# Altium schematic symbol library OXI_ONE.SchLib: 92 symbols (part 2 of 3)
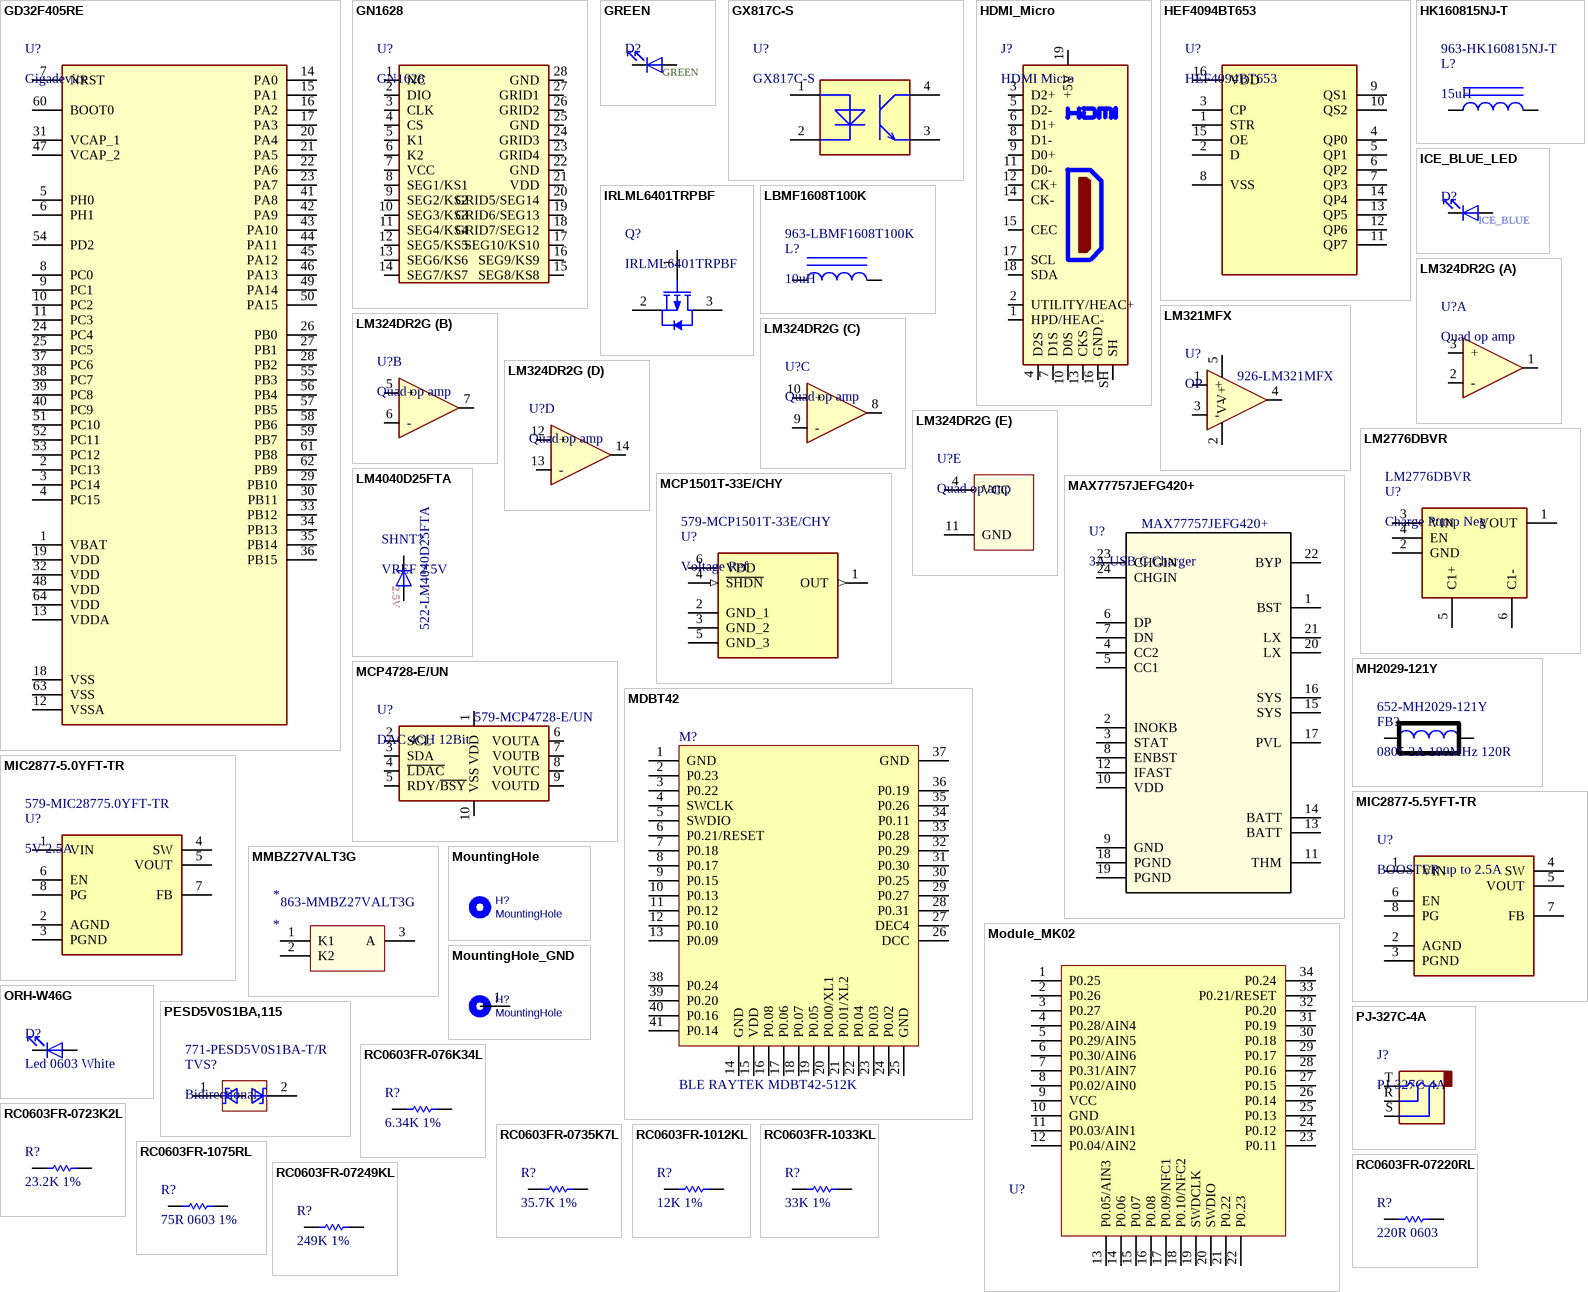
[diagram p3: symbols GD32F405RE to RC0603FR-07249KL]

## LM324DR2G
designator U?, comment Quad op amp
LM Series 0.6 V/us 32 V SMT Single Supply Quad Operational Amplifier - SOIC-14; Manufacturer: ON Semiconductor; Manufacturer Part Number: LM324DR2G; Number of Circuits: 4; Gain Bandwidth Product: 1MHz; Max Supply Voltage: 32V; Slew Rate: 0.6V/µs; Common Mode Rejection Ratio: 65dB; Min Supply Voltage: 3V; Min Dual Supply Voltage: 1.5V; Max Dual Supply Voltage: 16V; Voltage Gain: 100dB; Input Bias Current: 250nA; Input Offset Voltage (Vos): 7mV; Operating Supply Current: 1.4mA; Output Current per Channel: 40mA; Nominal Supply Current: 1.2mA; Amplifier Type: GENERAL PURPOSE; Dual Supply Voltage: 9V; Input Offset Voltage-Max: 3mV; Supplier 1: Mouser; RoHS: Yes; Category: Amplifiers - Op Amps, Buffer, Instrumentation; Stock 1: 102; Pricing 1: 1=0,43000, 10=0,34500, 50=0,34500, 100=0,21300, 1000=0,13200, 10000=0,10600 (USD); Case/Package: SOIC; Number of Pins: 14; Min Operating Temperature: 0°C; Max Operating Temperature: 70°C; Packaging: Tape and Reel; Number of Channels: 4; Package Quantity: 2500; Operating Supply Voltage: 16V; Output Current: 40mA; Number of Elements: 4; Bandwidth: 1MHz; Supply Current: 1.2mA; Technology: BIPOLAR; Number of Amplifiers: 4; Power Supply Rejection Ratio (PSRR): 65dB; Series: -; Slew Rate-Nom: 0.6V/µs; Length: 8.75mm; Width: 4mm; Height: 1.5mm; Radiation Hardening: No; Lead Free: Lead Free; RoHS Compliant: Yes; REACH SVHC: No SVHC; Halogen Free: Halogen Free; ComponentLink1URL: https://datasheet.ciiva.com/17093/lm324dr2g-17093592.pdf?src-supplier=Allied+Electronics; ComponentLink1Description: https://datasheet.ciiva.com/17093/lm324dr2g-17093592.pdf?src-supplier=Allied+Electronics; ComponentLink2URL: https://datasheet.ciiva.com/15129/getdatasheetpartid-53739-15129983.pdf?src-supplier=Verical; ComponentLink2Description: https://datasheet.ciiva.com/15129/getdatasheetpartid-53739-15129983.pdf?src-supplier=Verical; ComponentLink3URL: https://datasheet.ciiva.com/2973/lm324-d-2973349.pdf?src-supplier=Avnet; ComponentLink3Description: https://datasheet.ciiva.com/2973/lm324-d-2973349.pdf?src-supplier=Avnet; ComponentLink4URL: https://datasheet.ciiva.com/26222/lm324-d-26222822.pdf?src-supplier=Avnet+Europe; ComponentLink4Description: https://datasheet.ciiva.com/26222/lm324-d-26222822.pdf?src-supplier=Avnet+Europe; ComponentLink5URL: https://datasheet.ciiva.com/16546/lm324-d-16546057.pdf?src-supplier=Avnet+Asia; ComponentLink5Description: https://datasheet.ciiva.com/16546/lm324-d-16546057.pdf?src-supplier=Avnet+Asia; ComponentLink6URL: https://datasheet.ciiva.com/5787/81842-5787674.pdf?src-supplier=Farnell; ComponentLink6Description: https://datasheet.ciiva.com/5787/81842-5787674.pdf?src-supplier=Farnell; ComponentLink7URL: https://datasheet.ciiva.com/1795/lm324-d-1795595.pdf?src-supplier=Digi-Key; ComponentLink7Description: https://datasheet.ciiva.com/1795/lm324-d-1795595.pdf?src-supplier=Digi-Key; ComponentLink8URL: https://datasheet.ciiva.com/1795/lm324-d-1795596.pdf?src-supplier=Digi-Key; ComponentLink8Description: https://datasheet.ciiva.com/1795/lm324-d-1795596.pdf?src-supplier=Digi-Key; ComponentLink9URL: https://datasheet.ciiva.com/1795/lm324-d-1795597.pdf?src-supplier=Digi-Key; ComponentLink9Description: https://datasheet.ciiva.com/1795/lm324-d-1795597.pdf?src-supplier=Digi-Key; ComponentLink10URL: https://datasheet.ciiva.com/2975/lm324-d-2975022.pdf?src-supplier=Avnet; ComponentLink10Description: https://datasheet.ciiva.com/2975/lm324-d-2975022.pdf?src-supplier=Avnet; Supplier Part Number 1: 863-LM324DR2G
footprint SOIC127P600X175-14N
part A pins: 1, 2 -, 3 +
part B pins: 5 +, 6 -, 7
part C pins: 8, 9 -, 10 +
part D pins: 12 +, 13 -, 14
part E pins: 4 VCC, 11 GND

## LM2776DBVR
designator U?, comment Charge Pump Neg  Supplier Part Number 1: LM2776DBVR
Charge Pump INV -2.7V to -5.5V 200mA 6-Pin SOT-23 T/R / IC REG SWTCHD CAP INV 6SOT23; Manufacturer: Texas Instruments; Number of Outputs: 1; Min Input Voltage: 2.7V; Max Input Voltage: 5.5V; Switching Frequency: 2MHz; Synchronous Rectifier: No; Logic Function: Inverting; Quiescent Current: 100uA; Output Type: Fixed; Output Configuration: Negative; Supplier 1: TI store; Manufacturer Part Number: LM2776DBVR; RoHS: Yes; Category: Voltage Regulators - Switching; Stock 1: 579; Mount: Surface Mount; Case/Package: SOT-23-6; Number of Pins: 6; Min Operating Temperature: -40°C; Max Operating Temperature: 85°C; Packaging: Tape and Reel; Output Current: 200mA; Output Voltage: -5.5V; Topology: Charge Pump; Lead Free: Lead Free; RoHS Compliant: Yes; ComponentLink1URL: http://www.ti.com/general/docs/lit/getliterature.tsp?genericPartNumber=LM2776&&fileType=pdf&src-supplier=Avnet; ComponentLink1Description: http://www.ti.com/general/docs/lit/getliterature.tsp?genericPartNumber=LM2776&&fileType=pdf&src-supplier=Avnet; ComponentLink2URL: http://www.ti.com/lit/ds/symlink/lm2776.pdf?src-supplier=Digi-Key; ComponentLink2Description: http://www.ti.com/lit/ds/symlink/lm2776.pdf?src-supplier=Digi-Key; ComponentLink3URL: http://www.ti.com/lit/ds/symlink/lm2776.pdf?src-supplier=Farnell; ComponentLink3Description: http://www.ti.com/lit/ds/symlink/lm2776.pdf?src-supplier=Farnell
footprint SOT95P280X145-6N
pins: 1 VOUT, 2 GND, 3 VIN, 4 EN, 5 C1+, 6 C1-

## LM4040D25FTA
designator SHNT?, comment VREF 2.5V  Supplier Part Number 1: 522-LM4040D25FTA
IC VREF SHUNT 2.5V SOT23; Manufacturer: Diodes Zetex; Manufacturer Part Number: LM4040D25FTA; Max Output Current: 15mA; Tolerance: 1%; Temperature Coefficient: 150ppm/°C; Cathode Current: 73uA; Reference Type: Shunt,Fixed; Output Type: Fixed; Supplier 1: Mouser; RoHS: Yes; Category: Voltage References; Stock 1: 23889; Pricing 1: 1=0,54000, 10=0,46000, 50=0,46000, 100=0,31900, 1000=0,20900, 10000=0,16700 (USD); Mount: Surface Mount; Case/Package: SOT-23; Number of Pins: 3; Min Operating Temperature: -40°C; Max Operating Temperature: 125°C; Output Voltage: 2.5V; Packaging: Tape and Reel; Package Quantity: 3000; Current Rating: 15mA; Min Output Voltage: 2.5V; Output Current: 15mA; Max Output Voltage: 2.5V; Reference Voltage: 2.5V; Series: -; Length: 3.04mm; Width: 1.4mm; Height: 1.02mm; Radiation Hardening: No; Lead Free: Lead Free; RoHS Compliant: Yes; ComponentLink1URL: https://datasheet.ciiva.com/4909/lm4040-2681-4909232.pdf?src-supplier=Mouser; ComponentLink1Description: https://datasheet.ciiva.com/4909/lm4040-2681-4909232.pdf?src-supplier=Mouser
footprint SOT-23-3 (SOT23, 3-Leads, Body 2.92x1.3mm, Pitch 0.95mm)
pins: 1 K, 2 A

## MAX77757JEFG420+
designator U?, comment 3A USB C Charger  Supplier Part Number 1: MAX77757JEFG420+
/ Gestión de baterías 14V Input, 3A USB Type C Autonomous Charger /; Manufacturer: Maxim; Supplier 1: Avnet; Manufacturer Part Number: MAX77757JEFG420+; RoHS: No; Pricing 1: 624=2,08051, 1248=2,01751, 2496=1,95451, 3744=1,89151, 4992=1,82851, 6240=1,76551, 62400=1,70251 (USD)
footprint 21-100385_90-100128_MXM (Footprint not found)
pins: 1 BST, 2 INOKB, 3 STAT, 4 CC2, 5 CC1, 6 DP, 7 DN, 8 ENBST, 9 GND, 10 VDD, 11 THM, 12 IFAST, 13 BATT, 14 BATT, 15 SYS, 16 SYS, 17 PVL, 18 PGND, 19 PGND, 20 LX, 21 LX, 22 BYP, 23 CHGIN, 24 CHGIN

## MCP1501T-33E/CHY
designator U?, comment Voltage Ref  Supplier Part Number 1: 579-MCP1501T-33E/CHY
IC VREF SERIES 3.3V; Manufacturer: Microchip; Manufacturer Part Number: MCP1501T-33E/CHY; Output Current: 20mA; Temperature Coefficient: 50ppm/°C; Operating Supply Current: 550uA; Tolerance: 0.08%; Output Type: Fixed; Supplier 1: Mouser; RoHS: Yes; Category: Voltage References; Stock 1: 2708; Pricing 1: 1=0,80000, 10=0,80000, 50=0,66000, 100=0,61000, 1000=0,61000, 10000=0,61000 (USD); Mount: Surface Mount; Case/Package: SOT-23-6; Min Operating Temperature: -40°C; Max Operating Temperature: 125°C; Packaging: Tape and Reel; Min Output Voltage: 3.3V; Reference Type: Series; RoHS Compliant: Yes; ComponentLink1URL: http://www.microchip.com/mymicrochip/filehandler.aspx?ddocname=en584595&src-supplier=Digi-Key; ComponentLink1Description: http://www.microchip.com/mymicrochip/filehandler.aspx?ddocname=en584595&src-supplier=Digi-Key
footprint SOT95P270X145-6N
pins: 1 OUT (out), 2 GND_1 (power), 3 GND_2 (power), 4 ~{SHDN} (in), 5 GND_3 (power), 6 VDD (power)

## MCP4728-E/UN
designator U?, comment DAC 4CH 12Bit  Supplier Part Number 1: 579-MCP4728-E/UN
DAC 4-CH Resistor-String 12-bit 10-Pin MSOP Tube; Manufacturer: Microchip; Manufacturer Part Number: MCP4728-E/UN; Resolution: 12b; Interface: I2C,Serial,2-Wire; Number of Channels: 4; Max Supply Voltage: 5.5V; Min Supply Voltage: 2.7V; Integral Nonlinearity (INL): 13LSB; Output Type: Voltage; Settling Time: 6us; Number of Bits: 12; Nominal Supply Current: 110mA; Polarity: Unipolar; Operating Supply Voltage: 5V; Supply Type: Single; Supplier 1: Mouser; RoHS: Yes; Category: Digital to Analog Converters (DACs); Pricing 1: 1=1,98000, 10=1,98000, 50=1,66000, 100=1,51000, 1000=1,51000, 10000=1,51000 (USD); Mount: Surface Mount; Case/Package: MSOP; Number of Pins: 10; Contact Plating: Tin,Matte; Min Operating Temperature: -40°C; Max Operating Temperature: 125°C; Packaging: Rail/Tube; Number of DAC Channels: 4; Package Quantity: 100; Number of Converters: 4; Supply Current: 110mA; Output Polarity: Unipolar; Length: 3mm; Width: 3mm; Height: 0.85mm; Radiation Hardening: No; RoHS Compliant: Yes; Lead Free: Lead Free; REACH SVHC: No SVHC; ComponentLink1URL: https://datasheet.ciiva.com/16211/filehandler-aspxddocname-en542384-16211402.pdf?src-supplier=Future+Electronics; ComponentLink1Description: https://datasheet.ciiva.com/16211/filehandler-aspxddocname-en542384-16211402.pdf?src-supplier=Future+Electronics; ComponentLink2URL: https://datasheet.ciiva.com/14180/mcp4728-eng-tds-14180127.pdf?src-supplier=Distrelec; ComponentLink2Description: https://datasheet.ciiva.com/14180/mcp4728-eng-tds-14180127.pdf?src-supplier=Distrelec; ComponentLink3URL: https://datasheet.ciiva.com/3041/22187e-3041747.pdf?src-supplier=Avnet; ComponentLink3Description: https://datasheet.ciiva.com/3041/22187e-3041747.pdf?src-supplier=Avnet; ComponentLink4URL: https://datasheet.ciiva.com/6666/22187e-6666527.pdf?src-supplier=Digi-Key; ComponentLink4Description: https://datasheet.ciiva.com/6666/22187e-6666527.pdf?src-supplier=Digi-Key; ComponentLink5URL: https://datasheet.ciiva.com/16625/22187e-16625647.pdf?src-supplier=Avnet+Europe; ComponentLink5Description: https://datasheet.ciiva.com/16625/22187e-16625647.pdf?src-supplier=Avnet+Europe; ComponentLink6URL: https://datasheet.ciiva.com/29305/651478-da-01-en-ic-dac-mcp4728-e-un-msop-10-mcp-29305035.pdf?src-supplier=Conrad; ComponentLink6Description: https://datasheet.ciiva.com/29305/651478-da-01-en-ic-dac-mcp4728-e-un-msop-10-mcp-29305035.pdf?src-supplier=Conrad
footprint SOP50P490X110-10N
pins: 1 VDD, 2 SCL, 3 SDA, 4 ~{LDAC}, 5 RDY/~{BSY}, 6 VOUTA, 7 VOUTB, 8 VOUTC, 9 VOUTD, 10 VSS

## MDBT42
designator M?, comment BLE RAYTEK MDBT42-512K
MDBT42
footprint MDBT42
pins: 1 GND, 2 P0.23, 3 P0.22, 4 SWCLK, 5 SWDIO, 6 P0.21/RESET, 7 P0.18, 8 P0.17, 9 P0.15, 10 P0.13, 11 P0.12, 12 P0.10, 13 P0.09, 14 GND, 15 VDD, 16 P0.08, 17 P0.06, 18 P0.07, 19 P0.05, 20 P0.00/XL1, 21 P0.01/XL2, 22 P0.04, 23 P0.03, 24 P0.02, 25 GND, 26 DCC, 27 DEC4, 28 P0.31, 29 P0.27, 30 P0.25, 31 P0.30, 32 P0.29, 33 P0.28, 34 P0.11, 35 P0.26, 36 P0.19, 37 GND, 38 P0.24, 39 P0.20, 40 P0.16, 41 P0.14

## MH2029-121Y
designator FB?, comment 0805 2A 100MHz 120R  Supplier Part Number 1: 652-MH2029-121Y
Ferrite Beads High Current Chip 120Ohm 25% 100MHz 2A 100mOhm DCR 0805 T/R; Manufacturer: Bourns; Manufacturer Part Number: MH2029-121Y; DC Resistance (DCR): 100mR; Number of Lines: 1; Supplier 1: Mouser; RoHS: Yes; Category: Inductors; Stock 1: 6753; Pricing 1: 1=0,10000, 10=0,10000, 50=0,07200, 100=0,03400, 1000=0,02900, 10000=0,02400 (USD); Mount: Surface Mount; Case/Package: 0805; Core Material: Ferrite; Case Code (Metric): 2012; Case Code (Imperial): 0805; Min Operating Temperature: -55°C; Max Operating Temperature: 125°C; Tolerance: 25%; Impedance: 120R; Max DC Current: 2A; Packaging: Tape and Reel; Package Quantity: 4000; Max Current Rating: 2A; Termination: SMD/SMT; Test Frequency: 100MHz; Series: MH; Length: 0.079inch; Width: 0.047inch; Height: 0.043inch; Depth: 1.4mm; RoHS Compliant: Yes; ComponentLink1URL: https://datasheet.ciiva.com/8516/mh-8516216.pdf?src-supplier=Avnet; ComponentLink1Description: https://datasheet.ciiva.com/8516/mh-8516216.pdf?src-supplier=Avnet; ComponentLink2URL: https://datasheet.ciiva.com/1014/mh-1014686.pdf?src-supplier=Digi-Key; ComponentLink2Description: https://datasheet.ciiva.com/1014/mh-1014686.pdf?src-supplier=Digi-Key
footprint BEADC2012X110N
pins: 1, 2

## MIC2877-5.0YFT-TR
designator U?, comment 5V 2.5A  Supplier Part Number 1: 579-MIC28775.0YFT-TR
2MHz 6.5A Isw Synchronous Boost Regulator; Manufacturer: Microchip; Manufacturer Part Number: MIC2877-5.0YFT-TR; Supplier 1: Mouser; RoHS: Yes; Category: Voltage Regulators - Switching; Mount: Surface Mount; Number of Pins: 8; Packaging: Tape and Reel; RoHS Compliant: Yes; ComponentLink1URL: http://www.microchip.com/mymicrochip/filehandler.aspx?ddocname=en601345&src-supplier=Digi-Key; ComponentLink1Description: http://www.microchip.com/mymicrochip/filehandler.aspx?ddocname=en601345&src-supplier=Digi-Key
footprint MIC2877AYFTTR
pins: 1 VIN, 2 AGND, 3 PGND, 4 SW, 5 VOUT, 6 EN, 7 FB, 8 PG

## MIC2877-5.5YFT-TR
designator U?, comment BOOSTER up to 2.5A
Conv DC-DC 2.5V to 5.5V Synchronous Step Up Single-Out 5.5V 2A 8-Pin FTQFN T/R; Manufacturer: Microchip; Manufacturer Part Number: MIC2877-5.5YFT-TR; Supplier 1: Mouser; RoHS: Yes; Category: Voltage Regulators - Switching; Stock 1: 450; Mount: Surface Mount; Number of Pins: 8; Packaging: Tape and Reel; RoHS Compliant: Yes; ComponentLink1URL: http://www.microchip.com/mymicrochip/filehandler.aspx?ddocname=en601345&src-supplier=Digi-Key; ComponentLink1Description: http://www.microchip.com/mymicrochip/filehandler.aspx?ddocname=en601345&src-supplier=Digi-Key; Supplier Part Number 1: 579-MIC28775.5YFT-TR
footprint MIC2877AYFTTR
pins: 1 VIN, 2 AGND, 3 PGND, 4 SW, 5 VOUT, 6 EN, 7 FB, 8 PG

## MMBZ27VALT3G
designator *  Supplier Part Number 1: 863-MMBZ27VALT3G
ESD Suppressor TVS 16kV Automotive 3-Pin SOT-23 T/R; Manufacturer: ON Semiconductor; Manufacturer Part Number: MMBZ27VALT3G; Element Configuration: Common Anode; Direction: Unidirectional; Reverse Standoff Voltage: 22V; Number of Unidirectional Channels: 2; Number of Bidirectional Channels: 1; Min Breakdown Voltage: 25.65V; Clamping Voltage: 40V; Peak Pulse Power: 40W; Power Line Protection: No; Leakage Current: 50nA; ESD Protection: Yes; Test Current: 1mA; Peak Pulse Current: 1A; Power Dissipation: 300mW; Diode Type: ZENER; Supplier 1: Mouser; RoHS: Yes; Category: Zener Diodes; Stock 1: 54354; Pricing 1: 1=0,21000, 10=0,20100, 50=0,20100, 100=0,11000, 1000=0,04600, 10000=0,03000 (USD); Case/Package: SOT-23-3; Number of Pins: 3; Min Operating Temperature: -55°C; Max Operating Temperature: 150°C; Package Quantity: 10000; Packaging: Tape and Reel; Termination: SMD/SMT; Working Voltage: 22V; Max Reverse Leakage Current: 50nA; Max Power Dissipation: 40W; Resistor Type: Zener; Series: Automotive, AEC-Q101; Number of Elements: 2; Reverse Breakdown Voltage: 25.65V; Operating Supply Voltage: 22V; Max Surge Current: 1A; Polarity: Unidirectional; Number of Channels: 2; Breakdown Voltage: 25.65V; Length: 2.9mm; Width: 1.4mm; Height: 1.01mm; Depth: 1.3mm; Radiation Hardening: No; Lead Free: Lead Free; RoHS Compliant: Yes; ComponentLink1URL: https://datasheet.ciiva.com/16465/mmbz5v6alt1-d-16465661.pdf?src-supplier=Future+Electronics; ComponentLink1Description: https://datasheet.ciiva.com/16465/mmbz5v6alt1-d-16465661.pdf?src-supplier=Future+Electronics; ComponentLink2URL: https://datasheet.ciiva.com/12326/mmbz5v6alt1-d-12326559.pdf?src-supplier=Mouser; ComponentLink2Description: https://datasheet.ciiva.com/12326/mmbz5v6alt1-d-12326559.pdf?src-supplier=Mouser; ComponentLink3URL: https://datasheet.ciiva.com/11195/mmbz5v6alt1-d-11195223.pdf?src-supplier=Avnet; ComponentLink3Description: https://datasheet.ciiva.com/11195/mmbz5v6alt1-d-11195223.pdf?src-supplier=Avnet; ComponentLink4URL: https://datasheet.ciiva.com/353/mmbz5v6alt1-d-353768.pdf?src-supplier=Digi-Key; ComponentLink4Description: https://datasheet.ciiva.com/353/mmbz5v6alt1-d-353768.pdf?src-supplier=Digi-Key; ComponentLink5URL: https://datasheet.ciiva.com/25957/mmbz5v6alt1-d-25957884.pdf?src-supplier=Avnet+Europe; ComponentLink5Description: https://datasheet.ciiva.com/25957/mmbz5v6alt1-d-25957884.pdf?src-supplier=Avnet+Europe
footprint SOT-23-3 (SOT23, 3-Leads, Body 2.92x1.3mm, Pitch 0.95mm)
pins: 1 K1, 2 K2, 3 A

## Module_MK02
designator U?, comment MK02  (value not drawn)
Modulo Compra proveedor externo
footprint PCB_MK02_05_06 (21.0*13.8mm)
pins: 1 P0.25, 2 P0.26, 3 P0.27, 4 P0.28/AIN4, 5 P0.29/AIN5, 6 P0.30/AIN6, 7 P0.31/AIN7, 8 P0.02/AIN0, 9 VCC, 10 GND, 11 P0.03/AIN1, 12 P0.04/AIN2, 13 P0.05/AIN3, 14 P0.06, 15 P0.07, 16 P0.08, 17 P0.09/NFC1, 18 P0.10/NFC2, 19 SWDCLK, 20 SWDIO, 21 P0.22, 22 P0.23, 23 P0.11, 24 P0.12, 25 P0.13, 26 P0.14, 27 P0.15, 28 P0.16, 29 P0.17, 30 P0.18, 31 P0.19, 32 P0.20, 33 P0.21/RESET, 34 P0.24

## MountingHole
designator H?  (no BOM)
Mounting Hole; LCSC Part: -; Package: -; Ref. Other: -; Footprint: MountingHole:MountingHole_3.2mm_M3_DIN965; Value: MountingHole
footprint MountingHole_3.2mm_M3_DIN965

## MountingHole_GND
designator H?, comment MountingHole  (no BOM)
Mounting Hole; LCSC Part: -; Package: -; Ref. Other: -; Footprint: MountingHole:MountingHole_3.2mm_M3_DIN965; Value: MountingHole
footprint MountingHole_3.2mm_M3_DIN965 - GND
pins: 1

## ORH-W46G
designator D?, comment Led 0603 White
White 0603 Light Emitting Diodes (LED) RoHS; Manufacturer Part Number: C205448
footprint LED_0603_1608Metric
pins: 1 K, 2 A

## PESD5V0S1BA,115
designator TVS?, comment Bidirectional  Supplier Part Number 1: 771-PESD5V0S1BA-T/R
PESD Series 14 V 45 pF Bi-Directional ESD Protection Diode - SOD-323; Manufacturer: Nexperia; Manufacturer Part Number: PESD5V0S1BA,115; Supplier 1: Mouser; RoHS: Yes; Category: ESD and Circuit Protection ICs; Pricing 1: 1=0,40000, 10=0,30800, 50=0,30800, 100=0,17500, 1000=0,08900, 10000=0,06900 (USD); RoHS Compliant: Yes; ComponentLink1URL: http://www.farnell.com/datasheets/461331.pdf?src-supplier=Farnell; ComponentLink1Description: http://www.farnell.com/datasheets/461331.pdf?src-supplier=Farnell; ComponentLink2URL: https://assets.nexperia.com/documents/data-sheet/PESD5V0S1BA_BB_BL.pdf?src-supplier=Digi-Key; ComponentLink2Description: https://assets.nexperia.com/documents/data-sheet/PESD5V0S1BA_BB_BL.pdf?src-supplier=Digi-Key
footprint SOD2512X110N
pins: 1 K1, 2 K2

## PJ-327C-4A
designator J?
3.5mm SMD Headphone Holder 4 Female Horizontal 14*6mm Audio & Video Connectors RoHS; Manufacturer: HRO Electronics; Supplier 1: LCSC; Manufacturer Part Number: PJ-327C-4A; RoHS: No; Supplier Part Number 1: C145813
footprint PJ-327C-4A
pins: R, S, T

## RC0603FR-076K34L
designator R?, comment 6.34K 1%
RES SMD 6.34K OHM 1% 1/10W 0603; Manufacturer: Yageo; Manufacturer Part Number: RC0603FR-076K34L; Resistance: 6.34kR; Power Rating: 100mW; Voltage Rating: 50V; Temperature Coefficient: 100ppm/°C; Supplier 1: Mouser; RoHS: Yes; Category: Chip SMD Resistors; Stock 1: 1208; Pricing 1: 1=0,10000, 10=0,02400, 50=0,02400, 100=0,01000, 1000=0,00400, 10000=0,00300 (USD); Case/Package: 0603; Case Code (Imperial): 0603; Case Code (Metric): 1608; Size Code: 0603; Min Operating Temperature: -55°C; Max Operating Temperature: 155°C; Tolerance: 1%; Packaging: Tape and Reel; Package Quantity: 1; Termination: SMD/SMT; Resistor Type: Thick Film; Number of Terminations: 2; Max Power Dissipation: 100mW; Voltage Rating (DC): 50V; Features: Moisture Resistant; Series: RC; Construction: Rectangular; Length: 1.6mm; Width: 0.031inch; Height: 0.022inch; Depth: 0.8mm; Military Standard: Not; Lead Free: Lead Free; RoHS Compliant: Yes; ComponentLink1URL: https://datasheet.ciiva.com/15189/getdatasheetpartid-323692-15189807.pdf?src-supplier=Verical; ComponentLink1Description: https://datasheet.ciiva.com/15189/getdatasheetpartid-323692-15189807.pdf?src-supplier=Verical; ComponentLink2URL: https://datasheet.ciiva.com/2519/pyu-r-int-thick-7-2519204.pdf?src-supplier=Digi-Key; ComponentLink2Description: https://datasheet.ciiva.com/2519/pyu-r-int-thick-7-2519204.pdf?src-supplier=Digi-Key; ComponentLink3URL: https://datasheet.ciiva.com/2519/pyu-r-int-thick-7-2519205.pdf?src-supplier=Digi-Key; ComponentLink3Description: https://datasheet.ciiva.com/2519/pyu-r-int-thick-7-2519205.pdf?src-supplier=Digi-Key; ComponentLink4URL: https://datasheet.ciiva.com/2519/pyu-r-int-thick-7-2519206.pdf?src-supplier=Digi-Key; ComponentLink4Description: https://datasheet.ciiva.com/2519/pyu-r-int-thick-7-2519206.pdf?src-supplier=Digi-Key; Supplier Part Number 1: 603-RC0603FR-076K34L
footprint R 0603/1608
pins: 1, 2

## RC0603FR-0723K2L
designator R?, comment 23.2K 1%
Res Thick Film 0603 23.2K Ohm 1% 0.1W(1/10W) ±100ppm/C Molded SMD Paper T/R; Manufacturer: Yageo; Manufacturer Part Number: RC0603FR-0723K2L; Resistance: 23.2kR; Power Rating: 100mW; Voltage Rating: 50V; Temperature Coefficient: 100ppm/°C; Supplier 1: Mouser; RoHS: Yes; Category: Chip SMD Resistors; Stock 1: 29935; Pricing 1: 1=0,10000, 10=0,01800, 50=0,01800, 100=0,00600, 1000=0,00500, 10000=0,00300 (USD); Case/Package: 0603; Case Code (Metric): 1608; Case Code (Imperial): 0603; Size Code: 0603; Min Operating Temperature: -55°C; Max Operating Temperature: 155°C; Packaging: Tape and Reel; Tolerance: 1%; Package Quantity: 1; Resistor Type: Thick Film; Number of Terminations: 2; Termination: SMD/SMT; Max Power Dissipation: 100mW; Voltage Rating (DC): 50V; Features: Moisture Resistant; Series: RC; Construction: Rectangular; Length: 1.6mm; Width: 0.031inch; Height: 0.022inch; Depth: 0.8mm; Military Standard: Not; Lead Free: Lead Free; RoHS Compliant: Yes; ComponentLink1URL: https://datasheet.ciiva.com/2454/pyu-r-int-thick-7-2454177.pdf?src-supplier=Digi-Key; ComponentLink1Description: https://datasheet.ciiva.com/2454/pyu-r-int-thick-7-2454177.pdf?src-supplier=Digi-Key; ComponentLink2URL: https://datasheet.ciiva.com/2454/pyu-r-int-thick-7-2454178.pdf?src-supplier=Digi-Key; ComponentLink2Description: https://datasheet.ciiva.com/2454/pyu-r-int-thick-7-2454178.pdf?src-supplier=Digi-Key; ComponentLink3URL: https://datasheet.ciiva.com/2454/pyu-r-int-thick-7-2454179.pdf?src-supplier=Digi-Key; ComponentLink3Description: https://datasheet.ciiva.com/2454/pyu-r-int-thick-7-2454179.pdf?src-supplier=Digi-Key; Supplier Part Number 1: 603-RC0603FR-0723K2L
footprint R 0603/1608
pins: 1, 2

## RC0603FR-0735K7L
designator R?, comment 35.7K 1%
RES SMD 35.7K OHM 1% 1/10W 0603; Manufacturer: Yageo; Manufacturer Part Number: RC0603FR-0735K7L; Power Rating: 100mW; Resistance: 35.7kR; Voltage Rating: 50V; Temperature Coefficient: 100ppm/°C; Working Voltage: 75V; Supplier 1: Mouser; RoHS: Yes; Category: Chip SMD Resistors; Stock 1: 40499; Mount: Surface Mount; Case/Package: 0603; Case Code (Imperial): 0603; Case Code (Metric): 1608; Min Operating Temperature: -55°C; Max Operating Temperature: 155°C; Packaging: Tape and Reel; Package Quantity: 5000; Tolerance: 1%; Termination: SMD/SMT; Resistor Type: Thick Film; Voltage Rating (DC): 50V; Number of Terminations: 2; Features: Moisture Resistant; Series: RC; Max Power Dissipation: 100mW; Technology: METAL OXIDE FILM; Construction: Rectangular; Length: 1.6mm; Width: 0.8mm; Height: 0.45mm; Depth: 0.8mm; Military Standard: Not; Lead Free: Lead Free; RoHS Compliant: Yes; ComponentLink1URL: https://datasheet.ciiva.com/11808/0900766b80f96399-11808740.pdf?src-supplier=RSComponents; ComponentLink1Description: https://datasheet.ciiva.com/11808/0900766b80f96399-11808740.pdf?src-supplier=RSComponents; Supplier Part Number 1: 603-RC0603FR-0735K7L
footprint R 0603/1608
pins: 1, 2

## RC0603FR-1012KL
designator R?, comment 12K 1%
Res Thick Film 0603 12K Ohm 1% 1/10W 100ppm/C Molded SMD SMD Paper T/R; Manufacturer: Yageo; Manufacturer Part Number: RC0603FR-1012KL; Resistance: 12kR; Temperature Coefficient: 100ppm/°C; Supplier 1: Mouser; RoHS: Yes; Category: Chip SMD Resistors; Stock 1: 6354; Pricing 1: 1=0,10000, 10=0,01800, 50=0,01800, 100=0,00600, 1000=0,00500, 10000=0,00300 (USD); Case/Package: 0603; Contact Plating: Tin,Matte,Lead; Min Operating Temperature: -55°C; Max Operating Temperature: 155°C; Tolerance: 1%; Resistor Type: Thick Film; Packaging: Tape and Reel; Construction: Rectangular; Length: 1.6mm; Depth: 0.8mm; Radiation Hardening: No; Military Standard: Not; RoHS Compliant: Yes; ComponentLink1URL: http://components.arrow.com/part/dataview/0323_02050340?src-supplier=Arrow+Europe; ComponentLink1Description: http://components.arrow.com/part/dataview/0323_02050340?src-supplier=Arrow+Europe; ComponentLink2URL: http://www.yageo.com/documents/recent/PYu-RC0603_51_RoHS_L_5.pdf?src-supplier=Avnet+Europe; ComponentLink2Description: http://www.yageo.com/documents/recent/PYu-RC0603_51_RoHS_L_5.pdf?src-supplier=Avnet+Europe; ComponentLink3URL: http://www.yageo.com/pdf/PYu-RC0603_51_RoHS_L_4.pdf?src-supplier=Avnet; ComponentLink3Description: http://www.yageo.com/pdf/PYu-RC0603_51_RoHS_L_4.pdf?src-supplier=Avnet; Supplier Part Number 1: 603-RC0603FR-1012KL
footprint R 0603/1608
pins: 1, 2

## RC0603FR-1033KL
designator R?, comment 33K 1%
Thick Film Resistors - SMD 33K OHM 1%; Manufacturer: Yageo; Manufacturer Part Number: RC0603FR-1033KL; Resistance: 33kR; Temperature Coefficient: 100ppm/°C; Power Rating: 100mW; Voltage Rating: 50V; Supplier 1: Mouser; RoHS: Yes; Category: Chip SMD Resistors; Stock 1: 3231; Pricing 1: 1=0,10000, 10=0,01800, 50=0,01800, 100=0,00600, 1000=0,00500, 10000=0,00300 (USD); Case/Package: 0603; Contact Plating: Tin,Matte,Lead; Case Code (Imperial): 0603; Case Code (Metric): 1608; Min Operating Temperature: -55°C; Max Operating Temperature: 155°C; Tolerance: 1%; Resistor Type: Thick Film; Packaging: Tape and Reel; Termination: SMD/SMT; Series: RC; Construction: Rectangular; Length: 1.6mm; Width: 0.8mm; Height: 0.45mm; Depth: 0.8mm; Radiation Hardening: No; Military Standard: Not; RoHS Compliant: Yes; ComponentLink1URL: https://datasheet.ciiva.com/12561/rc0603-272842-12561052.pdf?src-supplier=Mouser; ComponentLink1Description: https://datasheet.ciiva.com/12561/rc0603-272842-12561052.pdf?src-supplier=Mouser; Supplier Part Number 1: 603-RC0603FR-1033KL
footprint R 0603/1608
pins: 1, 2

## RC0603FR-1075RL
designator R?, comment 75R 0603 1%
Res Thick Film 0603 75 Ohm 1% 1/10W ±100ppm/°C Molded SMD SMD Paper T/R; Manufacturer: Yageo; Manufacturer Part Number: RC0603FR-1075RL; Power Rating: 100mW; Voltage Rating: 50V; Supplier 1: Mouser; RoHS: Yes; Category: Chip SMD Resistors; Stock 1: 1106; Case/Package: 0603; Contact Plating: Tin,Matte; Case Code (Imperial): 0603; Case Code (Metric): 1608; Min Operating Temperature: -55°C; Max Operating Temperature: 155°C; Resistance: 75R; Tolerance: 1%; Resistor Type: Thick Film; Temperature Coefficient: 100ppm/°C; Packaging: Tape and Reel; Termination: SMD/SMT; Series: RC; Length: 1.6mm; Width: 0.8mm; Height: 0.45mm; Radiation Hardening: No; RoHS Compliant: Yes; ComponentLink1URL: http://www.mouser.com/ds/2/447/RC0603-272842.pdf?src-supplier=Mouser; ComponentLink1Description: http://www.mouser.com/ds/2/447/RC0603-272842.pdf?src-supplier=Mouser; ComponentLink2URL: http://www.yageo.com/documents/recent/PYu-RC_Group_51_RoHS_L_2.pdf?src-supplier=Avnet; ComponentLink2Description: http://www.yageo.com/documents/recent/PYu-RC_Group_51_RoHS_L_2.pdf?src-supplier=Avnet; ComponentLink3URL: http://www.yageo.com/documents/recent/PYu-RC0603_51_RoHS_L_5.pdf?src-supplier=Avnet+Europe; ComponentLink3Description: http://www.yageo.com/documents/recent/PYu-RC0603_51_RoHS_L_5.pdf?src-supplier=Avnet+Europe; Supplier Part Number 1: 603-RC0603FR-1075RL
footprint R 0603/1608
pins: 1, 2

## RC0603FR-07220RL
designator R?, comment 220R 0603
THICK FILM RESISTOR, 220 OHM, 100mW, 1%; Product Range:RC Series; Resistance:220ohm; Power Rating:100mW; Resistance Tolerance: 1%; Voltage Rating:50V; Resistor Case Style:0603 [1608 Metric]; Packaging:Cut Tape; MSL:-; No. of Pins:2 ;RoHS Compliant: Yes; Manufacturer: Yageo; Manufacturer Part Number: RC0603FR-07220RL; Temperature Coefficient: 100ppm/°C; Voltage Rating (DC): 50V; Supplier 1: Mouser; RoHS: Yes; Category: Chip SMD Resistors; Stock 1: 133919; Case/Package: 0603; Number of Pins: 2; Case Code (Imperial): 0603; Case Code (Metric): 1608; Size Code: 0603; Min Operating Temperature: -55°C; Max Operating Temperature: 155°C; Resistance: 220R; Tolerance: 1%; Resistor Type: Thick Film; Packaging: Tape and Reel; Power Rating: 100mW; Voltage Rating: 50V; Package Quantity: 1; Termination: SMD/SMT; Number of Terminations: 2; Max Power Dissipation: 100mW; Features: Moisture Resistant; Series: RC; Construction: Rectangular; Length: 1.6mm; Width: 0.031inch; Height: 0.022inch; Depth: 0.8mm; REACH SVHC: No SVHC; Lead Free: Lead Free; RoHS Compliant: Yes; Military Standard: Not; ComponentLink1URL: https://datasheet.ciiva.com/2453/pyu-r-int-thick-7-2453973.pdf?src-supplier=Digi-Key; ComponentLink1Description: https://datasheet.ciiva.com/2453/pyu-r-int-thick-7-2453973.pdf?src-supplier=Digi-Key; ComponentLink2URL: https://datasheet.ciiva.com/2453/pyu-r-int-thick-7-2453974.pdf?src-supplier=Digi-Key; ComponentLink2Description: https://datasheet.ciiva.com/2453/pyu-r-int-thick-7-2453974.pdf?src-supplier=Digi-Key; ComponentLink3URL: https://datasheet.ciiva.com/2453/pyu-r-int-thick-7-2453975.pdf?src-supplier=Digi-Key; ComponentLink3Description: https://datasheet.ciiva.com/2453/pyu-r-int-thick-7-2453975.pdf?src-supplier=Digi-Key; ComponentLink4URL: https://datasheet.ciiva.com/7746/1738695-7746300.pdf?src-supplier=Element14; ComponentLink4Description: https://datasheet.ciiva.com/7746/1738695-7746300.pdf?src-supplier=Element14; ComponentLink5URL: https://datasheet.ciiva.com/7746/1738695-7746301.pdf?src-supplier=Element14; ComponentLink5Description: https://datasheet.ciiva.com/7746/1738695-7746301.pdf?src-supplier=Element14; Supplier Part Number 1: 603-RC0603FR-07220RL
footprint R 0603/1608
pins: 1, 2

## RC0603FR-07249KL
designator R?, comment 249K 1%
RC Series 0603 0.1 W 249 kOhms 1% ±100 ppm/°C SMT Thick Film Chip Resistor; Manufacturer: Yageo; Manufacturer Part Number: RC0603FR-07249KL; Voltage Rating: 50V; Resistance: 249kR; Power Rating: 100mW; Supplier 1: Mouser; RoHS: Yes; Category: Chip SMD Resistors; Stock 1: 12873; Pricing 1: 1=0,10000, 10=0,02400, 50=0,02400, 100=0,01000, 1000=0,00400, 10000=0,00200 (USD); Mount: Surface Mount; Case/Package: 0603; Case Code (Imperial): 0603; Case Code (Metric): 1608; Size Code: 0603; Min Operating Temperature: -55°C; Max Operating Temperature: 155°C; Packaging: Tape and Reel; Package Quantity: 1; Tolerance: 1%; Termination: SMD/SMT; Resistor Type: Thick Film; Number of Terminations: 2; Temperature Coefficient: 100ppm/°C; Max Power Dissipation: 100mW; Voltage Rating (DC): 50V; Features: Moisture Resistant; Series: RC; Construction: Rectangular; Technology: THICK FILM; Length: 1.6mm; Width: 0.031inch; Height: 0.022inch; Depth: 0.8mm; RoHS Compliant: Yes; Military Standard: Not; Lead Free: Lead Free; ComponentLink1URL: https://datasheet.ciiva.com/11819/0900766b80f96399-11819317.pdf?src-supplier=RSComponents; ComponentLink1Description: https://datasheet.ciiva.com/11819/0900766b80f96399-11819317.pdf?src-supplier=RSComponents; ComponentLink2URL: https://datasheet.ciiva.com/15189/getdatasheetpartid-326394-15189668.pdf?src-supplier=Verical; ComponentLink2Description: https://datasheet.ciiva.com/15189/getdatasheetpartid-326394-15189668.pdf?src-supplier=Verical; ComponentLink3URL: https://datasheet.ciiva.com/2454/pyu-r-int-thick-7-2454594.pdf?src-supplier=Digi-Key; ComponentLink3Description: https://datasheet.ciiva.com/2454/pyu-r-int-thick-7-2454594.pdf?src-supplier=Digi-Key; ComponentLink4URL: https://datasheet.ciiva.com/2454/pyu-r-int-thick-7-2454595.pdf?src-supplier=Digi-Key; ComponentLink4Description: https://datasheet.ciiva.com/2454/pyu-r-int-thick-7-2454595.pdf?src-supplier=Digi-Key; ComponentLink5URL: https://datasheet.ciiva.com/2454/pyu-r-int-thick-7-2454596.pdf?src-supplier=Digi-Key; ComponentLink5Description: https://datasheet.ciiva.com/2454/pyu-r-int-thick-7-2454596.pdf?src-supplier=Digi-Key; Supplier Part Number 1: 603-RC0603FR-07249KL
footprint R 0603/1608
pins: 1, 2

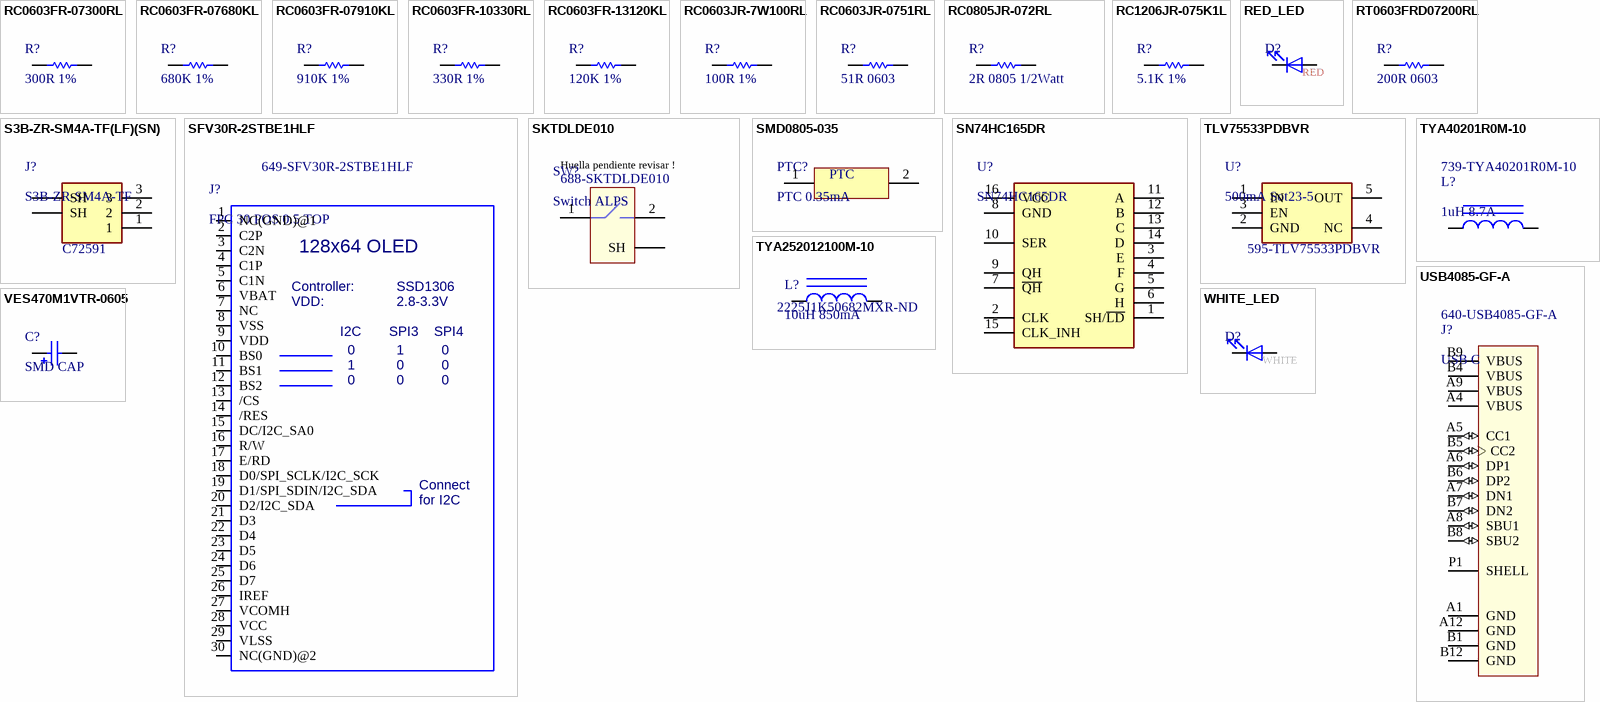
[diagram p2: symbols RC0603FR-07300RL to WHITE_LED]

## RC0603FR-07300RL
designator R?, comment 300R 1%
Res Thick Film 1.6 x 0.8 mm 300 Ohm 1% 0.1W(1/10W) 100ppm/ C Molded SMD Paper T/R; Manufacturer: Yageo; Manufacturer Part Number: RC0603FR-07300RL; Power Rating: 100mW; Voltage Rating: 50V; Temperature Coefficient: 100ppm/°C; Working Voltage: 75V; Supplier 1: Mouser; RoHS: Yes; Category: Chip SMD Resistors; Stock 1: 1540; Pricing 1: 1=0,10000, 10=0,02400, 50=0,02400, 100=0,01000, 1000=0,00400, 5000=0,00300, 10000=0,00300 (USD); Case/Package: 0603; Number of Pins: 2; Case Code (Imperial): 0603; Case Code (Metric): 1608; Min Operating Temperature: -55°C; Max Operating Temperature: 155°C; Resistance: 300R; Tolerance: 1%; Package Quantity: 1; Packaging: Tape and Reel; Termination: SMD/SMT; Resistor Type: Thick Film; Number of Terminations: 2; Max Power Dissipation: 100mW; Voltage Rating (DC): 50V; Features: Moisture Resistant; Series: RC; Resistance Tolerance: 1%; Technology: METAL OXIDE FILM; Construction: Rectangular; Length: 1.6mm; Width: 0.8mm; Height: 0.022inch; Depth: 0.8mm; REACH SVHC: Unknown; Military Standard: Not; Lead Free: Lead Free; RoHS Compliant: Yes; ComponentLink1URL: https://datasheet.ciiva.com/2454/pyu-r-int-thick-7-2454627.pdf?src-supplier=Digi-Key; ComponentLink1Description: https://datasheet.ciiva.com/2454/pyu-r-int-thick-7-2454627.pdf?src-supplier=Digi-Key; ComponentLink2URL: https://datasheet.ciiva.com/2454/pyu-r-int-thick-7-2454628.pdf?src-supplier=Digi-Key; ComponentLink2Description: https://datasheet.ciiva.com/2454/pyu-r-int-thick-7-2454628.pdf?src-supplier=Digi-Key; ComponentLink3URL: https://datasheet.ciiva.com/2454/pyu-r-int-thick-7-2454629.pdf?src-supplier=Digi-Key; ComponentLink3Description: https://datasheet.ciiva.com/2454/pyu-r-int-thick-7-2454629.pdf?src-supplier=Digi-Key; ComponentLink4URL: https://datasheet.ciiva.com/46395/443971-46395002.pdf?src-supplier=Element14; ComponentLink4Description: https://datasheet.ciiva.com/46395/443971-46395002.pdf?src-supplier=Element14; Supplier Part Number 1: 603-RC0603FR-07300RL
footprint R 0603/1608
pins: 1, 2

## RC0603FR-07680KL
designator R?, comment 680K 1%
YAGEO - RC0603FR-07680KL - RES, 680K, 1%, 0.1W, 0603, THICK FILM; Resistance: 680kR; Power Rating: 100mW; Voltage Rating: 50V; Temperature Coefficient: 100ppm/°C; Supplier 1: Mouser; Manufacturer: Yageo; Manufacturer Part Number: RC0603FR-07680KL; RoHS: Yes; Category: Chip SMD Resistors; Stock 1: 16681; Pricing 1: 1=0,10000, 10=0,02000, 50=0,02000, 100=0,00700, 1000=0,00400, 10000=0,00200 (USD); Case/Package: 0603; Number of Pins: 2; Case Code (Metric): 1608; Case Code (Imperial): 0603; Size Code: 0603; Min Operating Temperature: -55°C; Max Operating Temperature: 155°C; Package Quantity: 1; Tolerance: 1%; Packaging: Tape and Reel; Voltage Rating (DC): 50V; Resistor Type: Thick Film; Number of Terminations: 2; Termination: SMD/SMT; Max Power Dissipation: 100mW; Features: Moisture Resistant; Series: RC; Resistance Tolerance: 1%; Technology: THICK FILM; Construction: Rectangular; Length: 0.063inch; Width: 0.031inch; Height: 0.022inch; Depth: 0.8mm; REACH SVHC: Unknown; Military Standard: Not; Lead Free: Lead Free; RoHS Compliant: Yes; ComponentLink1URL: https://datasheet.ciiva.com/11808/0900766b80f96399-11808403.pdf?src-supplier=RSComponents; ComponentLink1Description: https://datasheet.ciiva.com/11808/0900766b80f96399-11808403.pdf?src-supplier=RSComponents; ComponentLink2URL: https://datasheet.ciiva.com/15189/getdatasheetpartid-323816-15189798.pdf?src-supplier=Verical; ComponentLink2Description: https://datasheet.ciiva.com/15189/getdatasheetpartid-323816-15189798.pdf?src-supplier=Verical; ComponentLink3URL: https://datasheet.ciiva.com/2519/pyu-r-int-thick-7-2519200.pdf?src-supplier=Digi-Key; ComponentLink3Description: https://datasheet.ciiva.com/2519/pyu-r-int-thick-7-2519200.pdf?src-supplier=Digi-Key; ComponentLink4URL: https://datasheet.ciiva.com/2519/pyu-r-int-thick-7-2519198.pdf?src-supplier=Digi-Key; ComponentLink4Description: https://datasheet.ciiva.com/2519/pyu-r-int-thick-7-2519198.pdf?src-supplier=Digi-Key; ComponentLink5URL: https://datasheet.ciiva.com/2519/pyu-r-int-thick-7-2519199.pdf?src-supplier=Digi-Key; ComponentLink5Description: https://datasheet.ciiva.com/2519/pyu-r-int-thick-7-2519199.pdf?src-supplier=Digi-Key; ComponentLink6URL: https://datasheet.ciiva.com/46440/1868787-46440911.pdf?src-supplier=Element14; ComponentLink6Description: https://datasheet.ciiva.com/46440/1868787-46440911.pdf?src-supplier=Element14; Supplier Part Number 1: 603-RC0603FR-07680KL
footprint R 0603/1608
pins: 1, 2

## RC0603FR-07910KL
designator R?, comment 910K 1%
RES SMD 910K OHM 1% 1/10W 0603; Manufacturer: Yageo; Manufacturer Part Number: RC0603FR-07910KL; Power Rating: 100mW; Resistance: 910kR; Voltage Rating: 50V; Temperature Coefficient: 100ppm/°C; Supplier 1: Mouser; RoHS: Yes; Category: Chip SMD Resistors; Stock 1: 9262; Mount: Surface Mount; Case/Package: 0603; Case Code (Imperial): 0603; Case Code (Metric): 1608; Min Operating Temperature: -55°C; Max Operating Temperature: 155°C; Packaging: Tape and Reel; Tolerance: 1%; Package Quantity: 1; Termination: SMD/SMT; Resistor Type: Thick Film; Number of Terminations: 2; Max Power Dissipation: 100mW; Voltage Rating (DC): 50V; Features: Moisture Resistant; Series: RC; Construction: Rectangular; Technology: THICK FILM; Length: 1.6mm; Width: 0.8mm; Height: 0.45mm; Depth: 0.8mm; Military Standard: Not; Lead Free: Lead Free; RoHS Compliant: Yes; ComponentLink1URL: https://datasheet.ciiva.com/11819/0900766b80f96399-11819435.pdf?src-supplier=RSComponents; ComponentLink1Description: https://datasheet.ciiva.com/11819/0900766b80f96399-11819435.pdf?src-supplier=RSComponents; ComponentLink2URL: https://datasheet.ciiva.com/2455/pyu-r-int-thick-7-2455062.pdf?src-supplier=Digi-Key; ComponentLink2Description: https://datasheet.ciiva.com/2455/pyu-r-int-thick-7-2455062.pdf?src-supplier=Digi-Key; ComponentLink3URL: https://datasheet.ciiva.com/2455/pyu-r-int-thick-7-2455063.pdf?src-supplier=Digi-Key; ComponentLink3Description: https://datasheet.ciiva.com/2455/pyu-r-int-thick-7-2455063.pdf?src-supplier=Digi-Key; ComponentLink4URL: https://datasheet.ciiva.com/2455/pyu-r-int-thick-7-2455064.pdf?src-supplier=Digi-Key; ComponentLink4Description: https://datasheet.ciiva.com/2455/pyu-r-int-thick-7-2455064.pdf?src-supplier=Digi-Key; Supplier Part Number 1: 603-RC0603FR-07910KL
footprint R 0603/1608
pins: 1, 2

## RC0603FR-10330RL
designator R?, comment 330R 1%
Res Thick Film 0603 330 Ohm 1% 0.1W(1/10W) ±100ppm/C Epoxy Pad SMD T/R; Manufacturer: Yageo; Manufacturer Part Number: RC0603FR-10330RL; Temperature Coefficient: 100ppm/°C; Power Rating: 100mW; Voltage Rating: 50V; Supplier 1: Mouser; RoHS: Yes; Category: Chip SMD Resistors; Stock 1: 9354; Pricing 1: 1=0,10000, 10=0,01800, 50=0,01800, 100=0,00600, 1000=0,00500, 10000=0,00300 (USD); Case/Package: 0603; Contact Plating: Tin,Matte; Case Code (Imperial): 0603; Case Code (Metric): 1608; Min Operating Temperature: -55°C; Max Operating Temperature: 155°C; Resistance: 330R; Tolerance: 1%; Resistor Type: Thick Film; Packaging: Tape and Reel; Termination: SMD/SMT; Series: RC; Construction: Rectangular; Length: 1.6mm; Width: 0.8mm; Height: 0.45mm; Depth: 0.8mm; Radiation Hardening: No; Military Standard: Not; RoHS Compliant: Yes; ComponentLink1URL: https://datasheet.ciiva.com/12560/rc0603-272842-12560572.pdf?src-supplier=Mouser; ComponentLink1Description: https://datasheet.ciiva.com/12560/rc0603-272842-12560572.pdf?src-supplier=Mouser; Supplier Part Number 1: 603-RC0603FR-10330RL
footprint R 0603/1608
pins: 1, 2

## RC0603FR-13120KL
designator R?, comment 120K 1%
Thick Film Resistors - SMD 120K OHM 1%; Manufacturer: Yageo; Manufacturer Part Number: RC0603FR-13120KL; Resistance: 120kR; Temperature Coefficient: 100ppm/°C; Power Rating: 100mW; Voltage Rating: 50V; Supplier 1: Mouser; RoHS: Yes; Category: Chip SMD Resistors; Stock 1: 23194; Pricing 1: 1=0,10000, 10=0,01800, 50=0,01800, 100=0,00600, 1000=0,00500, 10000=0,00400 (USD); Case/Package: 0603; Contact Plating: Tin,Matte; Case Code (Imperial): 0603; Case Code (Metric): 1608; Min Operating Temperature: -55°C; Max Operating Temperature: 155°C; Tolerance: 1%; Resistor Type: Thick Film; Packaging: Tape and Reel; Termination: SMD/SMT; Series: RC; Construction: Rectangular; Length: 1.6mm; Width: 0.8mm; Height: 0.45mm; Depth: 0.8mm; Military Standard: Not; Lead Free: Lead Free; RoHS Compliant: Yes; ComponentLink1URL: https://datasheet.ciiva.com/12561/rc0603-272842-12561404.pdf?src-supplier=Mouser; ComponentLink1Description: https://datasheet.ciiva.com/12561/rc0603-272842-12561404.pdf?src-supplier=Mouser; ComponentLink2URL: https://datasheet.ciiva.com/16874/pyu-rc0603-51-rohs-l-4-16874575.pdf?src-supplier=Avnet+Europe; ComponentLink2Description: https://datasheet.ciiva.com/16874/pyu-rc0603-51-rohs-l-4-16874575.pdf?src-supplier=Avnet+Europe; ComponentLink3URL: https://datasheet.ciiva.com/28394/pyu-rc0603-51-rohs-l-4-28394815.pdf?src-supplier=Avnet+Europe; ComponentLink3Description: https://datasheet.ciiva.com/28394/pyu-rc0603-51-rohs-l-4-28394815.pdf?src-supplier=Avnet+Europe; Supplier Part Number 1: 603-RC0603FR-13120KL
footprint R 0603/1608
pins: 1, 2

## RC0603JR-7W100RL
designator R?, comment 100R 1%
Resistores de pel&iacute;cula gruesa - SMD 100 Ohms 200 mW 0603 5%; Manufacturer: Yageo; Manufacturer Part Number: RC0603JR-7W100RL; Supplier 1: Mouser; RoHS: Yes; Category: Resistors; Stock 1: 638; Pricing 1: 1=0,10000, 10=0,02300, 50=0,02300, 100=0,00800, 1000=0,00600, 10000=0,00400 (USD); Supplier Part Number 1: 603-RC0603JR-7W100RL
footprint R 0603/1608
pins: 1, 2

## RC0603JR-0751RL
designator R?, comment 51R 0603
YAGEO - RC0603JR-0751RL - RES, THICK FILM, 51R, 5%, 0.1W, 0603, REEL; Voltage Rating: 50V; Power Rating: 100mW; Temperature Coefficient: 100ppm/°C; Working Voltage: 75V; Supplier 1: Mouser; Manufacturer: Yageo; Manufacturer Part Number: RC0603JR-0751RL; RoHS: Yes; Category: Chip SMD Resistors; Stock 1: 40719; Case/Package: 0603; Case Code (Imperial): 0603; Case Code (Metric): 1608; Min Operating Temperature: -55°C; Max Operating Temperature: 155°C; Packaging: Tape and Reel; Tolerance: 5%; Package Quantity: 1; Resistance: 51R; Termination: SMD/SMT; Resistor Type: Thick Film; Number of Terminations: 2; Max Power Dissipation: 100mW; Voltage Rating (DC): 50V; Features: Moisture Resistant; Series: RC; Resistance Tolerance: 5%; Construction: Rectangular; Technology: THICK FILM; Length: 0.063inch; Width: 0.031inch; Height: 0.022inch; Depth: 0.8mm; REACH SVHC: No SVHC; Military Standard: Not; Lead Free: Lead Free; RoHS Compliant: Yes; ComponentLink1URL: https://datasheet.ciiva.com/2453/pyu-r-int-thick-7-2453257.pdf?src-supplier=Digi-Key; ComponentLink1Description: https://datasheet.ciiva.com/2453/pyu-r-int-thick-7-2453257.pdf?src-supplier=Digi-Key; ComponentLink2URL: https://datasheet.ciiva.com/2453/pyu-r-int-thick-7-2453258.pdf?src-supplier=Digi-Key; ComponentLink2Description: https://datasheet.ciiva.com/2453/pyu-r-int-thick-7-2453258.pdf?src-supplier=Digi-Key; ComponentLink3URL: https://datasheet.ciiva.com/46395/443971-46395085.pdf?src-supplier=Element14; ComponentLink3Description: https://datasheet.ciiva.com/46395/443971-46395085.pdf?src-supplier=Element14; ComponentLink4URL: https://datasheet.ciiva.com/2453/pyu-r-int-thick-7-2453256.pdf?src-supplier=Digi-Key; ComponentLink4Description: https://datasheet.ciiva.com/2453/pyu-r-int-thick-7-2453256.pdf?src-supplier=Digi-Key; Supplier Part Number 1: 603-RC0603JR-0751RL
footprint R 0603/1608
pins: 1, 2

## RC0805JR-072RL
designator R?, comment 2R 0805 1/2Watt
Resistor;Resistance:2Rohm;Resistance Tolerance:± 5%;Resistor Element Material:Thick Film;Resistor Case Style:0805; Manufacturer: Yageo; Manufacturer Part Number: RC0805JR-072RL; Temperature Coefficient: 200ppm/°C; Power Rating: 125mW; Voltage Rating: 150V; Supplier 1: Mouser; RoHS: Yes; Category: Chip SMD Resistors; Stock 1: 63554; Case/Package: 0805; Contact Plating: Tin,Matte; Case Code (Imperial): 0805; Case Code (Metric): 2012; Size Code: 0805; Min Operating Temperature: -55°C; Max Operating Temperature: 155°C; Resistance: 2R; Tolerance: 5%; Resistor Type: Thick Film; Packaging: Tape and Reel; Package Quantity: 5000; Termination: SMD/SMT; Number of Terminations: 2; Max Power Dissipation: 125mW; Voltage Rating (DC): 150V; Features: Moisture Resistant; Series: RC; Construction: Rectangular; Length: 0.079inch; Width: 0.049inch; Height: 0.024inch; Depth: 1.25mm; Radiation Hardening: No; Military Standard: Not; Lead Free: Lead Free; RoHS Compliant: Yes; ComponentLink1URL: https://datasheet.ciiva.com/2456/pyu-r-int-thick-7-2456195.pdf?src-supplier=Digi-Key; ComponentLink1Description: https://datasheet.ciiva.com/2456/pyu-r-int-thick-7-2456195.pdf?src-supplier=Digi-Key; ComponentLink2URL: https://datasheet.ciiva.com/2456/pyu-r-int-thick-7-2456196.pdf?src-supplier=Digi-Key; ComponentLink2Description: https://datasheet.ciiva.com/2456/pyu-r-int-thick-7-2456196.pdf?src-supplier=Digi-Key; ComponentLink3URL: https://datasheet.ciiva.com/2456/pyu-r-int-thick-7-2456194.pdf?src-supplier=Digi-Key; ComponentLink3Description: https://datasheet.ciiva.com/2456/pyu-r-int-thick-7-2456194.pdf?src-supplier=Digi-Key; ComponentLink4URL: https://datasheet.ciiva.com/16975/rc0805-16975493.pdf?src-supplier=Future+Electronics; ComponentLink4Description: https://datasheet.ciiva.com/16975/rc0805-16975493.pdf?src-supplier=Future+Electronics; Supplier Part Number 1: 603-RC0805JR-072RL
footprint R 0805/2012
pins: 1, 2

## RC1206JR-075K1L
designator R?, comment 5.1K 1%
RES SMD 5.1K OHM 5% 1/4W 1206; Manufacturer: Yageo; Manufacturer Part Number: RC1206JR-075K1L; Resistance: 5.1kR; Temperature Coefficient: 100ppm/°C; Power Rating: 250mW; Voltage Rating: 200V; Supplier 1: Mouser; RoHS: Yes; Category: Chip SMD Resistors; Stock 1: 1869; Case/Package: 1206; Contact Plating: Tin,Matte; Case Code (Imperial): 1206; Case Code (Metric): 3216; Min Operating Temperature: -55°C; Max Operating Temperature: 155°C; Tolerance: 5%; Resistor Type: Thick Film; Packaging: Tape and Reel; Package Quantity: 1; Termination: SMD/SMT; Number of Terminations: 2; Max Power Dissipation: 250mW; Voltage Rating (DC): 200V; Working Voltage: 200V; Features: Moisture Resistant; Series: RC; Construction: Rectangular; Technology: THICK FILM; Length: 3.1mm; Width: 1.6mm; Height: 0.026inch; Depth: 1.6mm; Radiation Hardening: No; Military Standard: Not; Lead Free: Lead Free; RoHS Compliant: Yes; ComponentLink1URL: https://datasheet.ciiva.com/2458/pyu-r-int-thick-7-2458950.pdf?src-supplier=Digi-Key; ComponentLink1Description: https://datasheet.ciiva.com/2458/pyu-r-int-thick-7-2458950.pdf?src-supplier=Digi-Key; ComponentLink2URL: https://datasheet.ciiva.com/2458/pyu-r-int-thick-7-2458951.pdf?src-supplier=Digi-Key; ComponentLink2Description: https://datasheet.ciiva.com/2458/pyu-r-int-thick-7-2458951.pdf?src-supplier=Digi-Key; ComponentLink3URL: https://datasheet.ciiva.com/2458/pyu-r-int-thick-7-2458952.pdf?src-supplier=Digi-Key; ComponentLink3Description: https://datasheet.ciiva.com/2458/pyu-r-int-thick-7-2458952.pdf?src-supplier=Digi-Key; ComponentLink4URL: https://datasheet.ciiva.com/16741/pyu-rc1206-51-rohs-l-4-16741707.pdf?src-supplier=Future+Electronics; ComponentLink4Description: https://datasheet.ciiva.com/16741/pyu-rc1206-51-rohs-l-4-16741707.pdf?src-supplier=Future+Electronics; Supplier Part Number 1: 603-RC1206JR-075K1L
footprint R 0603/1608
pins: 1, 2

## RED_LED
designator D?, comment RED 0603  (value not drawn)
Ice Blue 0603 Light Emitting Diodes (LED) RoHS; Manufacturer Part Number: C72044
footprint LED_0603_1608Metric[Red]
pins: 1 K, 2 A
text: RED

## RT0603FRD07200RL
designator R?, comment 200R 0603
RES SMD 200 OHM 1% 1/10W 0603; Manufacturer: Yageo; Manufacturer Part Number: RT0603FRD07200RL; Max Power Dissipation: 100mW; Temperature Coefficient: 25ppm/°C; Supplier 1: Mouser; RoHS: Yes; Category: Chip SMD Resistors; Stock 1: 1397; Pricing 1: 1=0,15000, 10=0,11700, 50=0,11700, 100=0,04600, 1000=0,02200, 10000=0,01500 (USD); Case/Package: 0603; Min Operating Temperature: -55°C; Max Operating Temperature: 155°C; Packaging: Tape and Reel; Resistance: 200R; Resistor Type: Thin Film; Number of Terminations: 2; Tolerance: 1%; Features: Moisture Resistant; Length: 0.063inch; Width: 0.031inch; Height: 0.022inch; RoHS Compliant: Yes; ComponentLink1URL: http://www.yageo.com/documents/recent/PYu-RT_1-to-0.01_RoHS_L_8.pdf?src-supplier=Digi-Key; ComponentLink1Description: http://www.yageo.com/documents/recent/PYu-RT_1-to-0.01_RoHS_L_8.pdf?src-supplier=Digi-Key; Supplier Part Number 1: 603-RT0603FRD07200RL
footprint R 0603/1608
pins: 1, 2